# EAGLE library part SWITCH-3P-SMD (library Discrete)
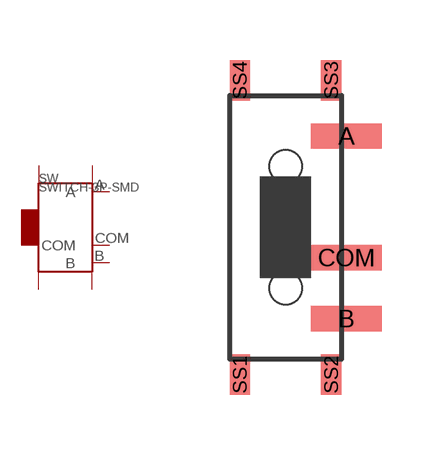
[diagram p9: symbol with the pads of 3P-SMD-2CH-6.6X2.8-REINFORCE; footprint 3P-SMD-2CH-6.6X2.8-REINFORCE]

Designator prefix SW

## SWITCH-3P-SMD-6.6X2.8  [3P-SMD-2CH-6.6X2.8-REINFORCE]
A  A
B  B
COM  COM
SS1  SS1
SS2  SS2
SS3  SS3
SS4  SS4

## Footprint 3P-SMD-2CH-6.6X2.8-REINFORCE (pad centres in mm)
smd 1.778 x 0.635: A 1.524,2.286; B 1.524,-2.286; COM 1.524,-0.762
smd 0.508 x 1.016: SS1 -1.143,-3.683; SS2 1.143,-3.683; SS3 1.143,3.683; SS4 -1.143,3.683
hole 0.813 at 0,-1.524
hole 0.813 at 0,1.524